# Altium schematic symbol library RC0603FR-0734K8L.SchLib: 1 symbol
Pins are listed as number, name and electrical type; pins without a type are passive.

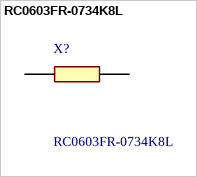
[diagram p0: symbol RC0603FR-0734K8L]

## RC0603FR-0734K8L
designator X?
Thick Film Resistors - SMD 34.8K OHM 1%; Manufacturer_Name: Yageo Group; Geometry.Height: 0.55mm; Mouser Part Number: 603-RC0603FR-0734K8L; Mouser Price/Stock: https://www.mouser.co.uk/ProductDetail/Yageo/RC0603FR-0734K8L?qs=diQw95jMAeMbYtJ6Ux5HDQ%3D%3D; Manufacturer_Part_Number: RC0603FR-0734K8L; Datasheet Link: http://www.yageo.com/documents/recent/PYu-RC0603_51_RoHS_L_v5.pdf
footprint RESC1608X55N
pins: 1, 2